# Altium schematic symbol library STW12N120K5.SchLib: 1 symbol
Pins are listed as number, name and electrical type; pins without a type are passive.

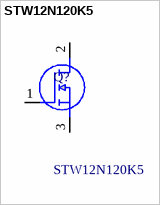
[diagram p0: symbol STW12N120K5]

## STW12N120K5
designator Q?
MOSFET PTD HIGH VOLTAGE; Manufacturer_Name: STMicroelectronics; Geometry.Height: 5.15mm; Mouser Part Number: 511-STW12N120K5; Mouser Price/Stock: https://www.mouser.com/Search/Refine.aspx?Keyword=511-STW12N120K5; Manufacturer_Part_Number: STW12N120K5; Datasheet Link: https://componentsearchengine.com/Datasheets/1/STW12N120K5.pdf
footprint TO545P515X1560X2445-3P
pins: 1 G, 2 D, 3 S